# Altium schematic symbol library Conn_TE_5-1634552-1_eec.SchLib: 3 symbols
Pins are listed as number, name and electrical type; pins without a type are passive.

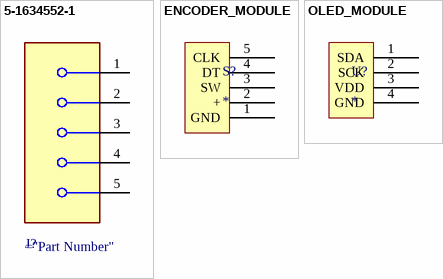
[diagram p0: symbols 5-1634552-1 to OLED_MODULE]

## 5-1634552-1
designator J?  (value not drawn)
pins: 1, 2 MNT 1, 3 MNT 2, 4 MNT 3, 5 MNT 4

## ENCODER_MODULE
designator S?
pins: 1 GND, 2 +, 3 SW, 4 DT, 5 CLK

## OLED_MODULE
designator U?
pins: 1 SDA, 2 SCK, 3 VDD, 4 GND